# Altium footprint library PcbLib1.PcbLib: 25 footprints (part 1 of 2)
Each footprint in its own frame and in the unit in brackets; x right, y up, seen from the top. Pads: shape width x height; smd on the part's side, far side on the other; paste and mask are expansions set on the pad; w line width, h text height; cw(c..) or ccw(c..) is an arc to the next point about the centre after c.
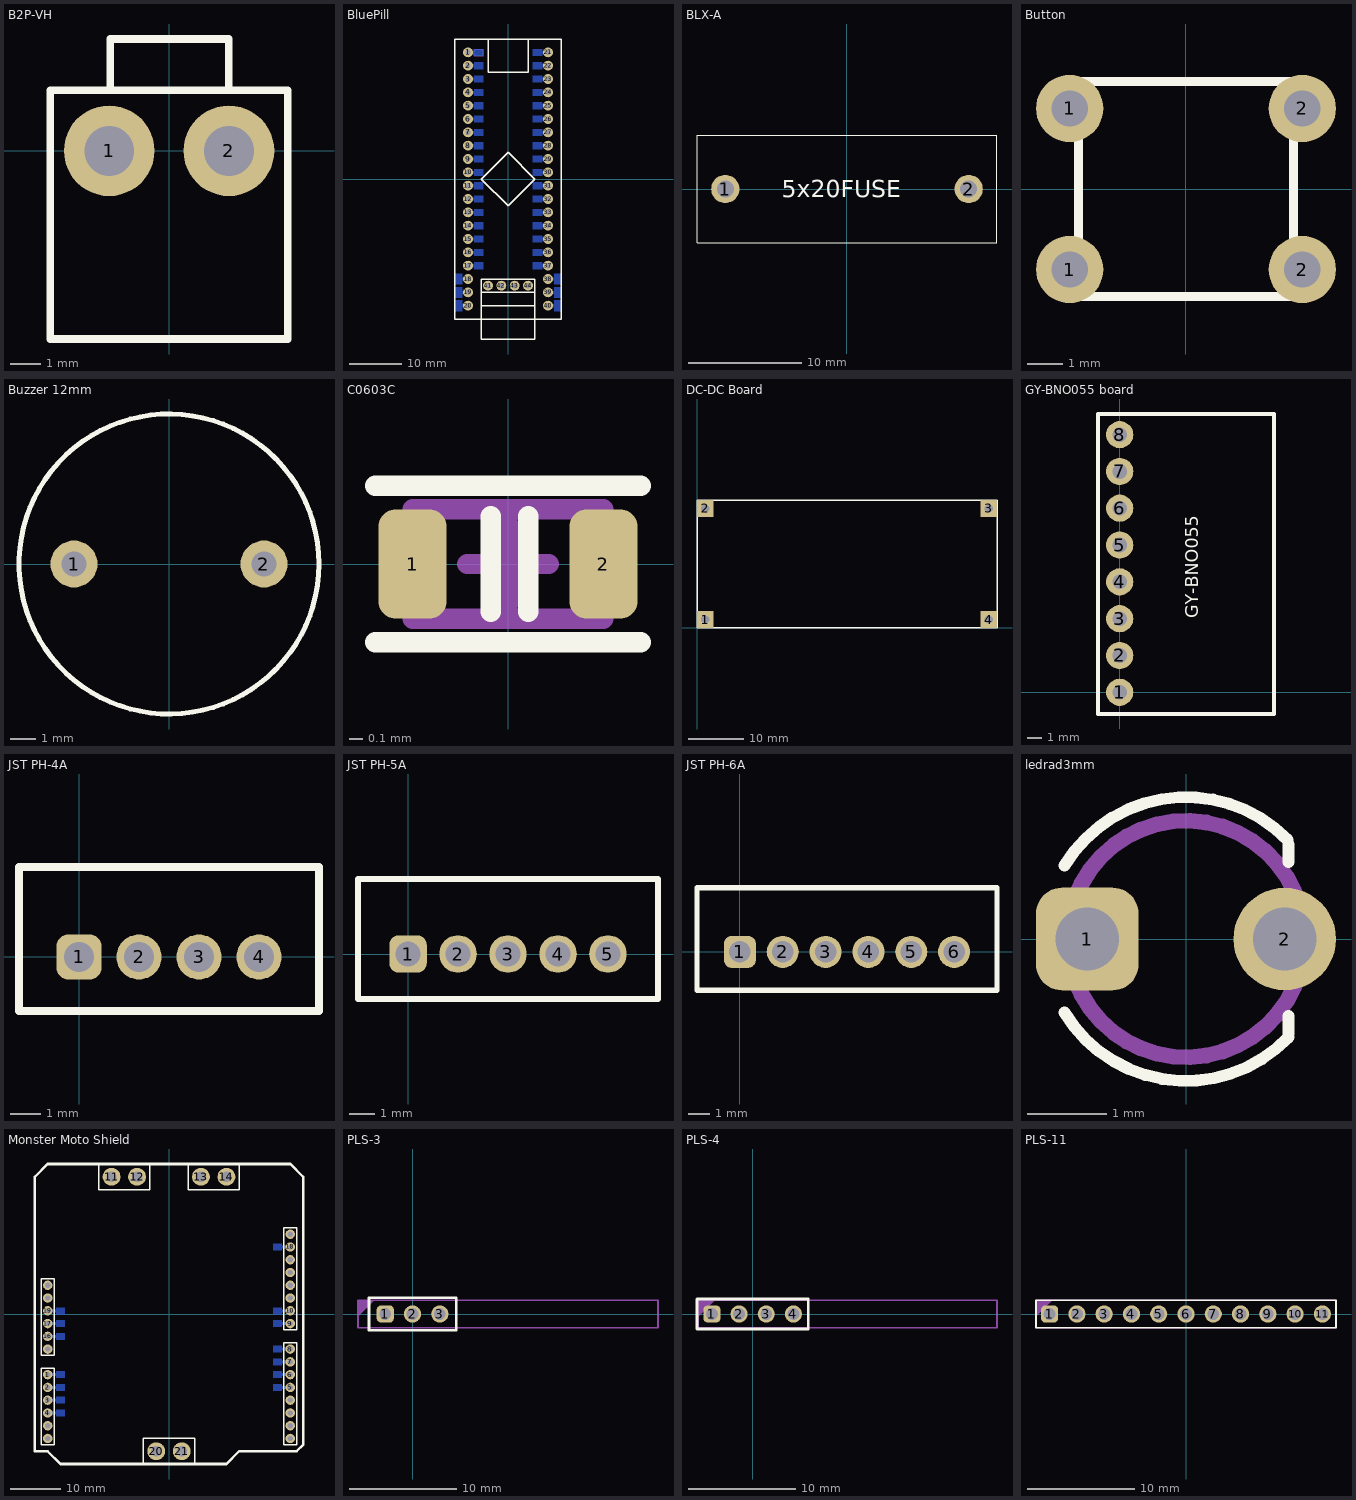
[diagram p0: the footprints below, top view; thin cyan lines are the x and y axes]

## B2P-VH [mm]
pads (2):
  round 3 hole 1.65: 1(-1.98,0) 2(1.98,0)
Top Overlay:
  lines w0.254: -1.95,2 -1.95,3.7 1.975,3.7 1.975,2 ; -3.93,-6.225 3.925,-6.225 3.925,2 -3.93,2 -3.93,-6.225

## BluePill [mil]
pads (44):
  round 74 hole 40: 1(-300,950) 2(-300,850) 3(-300,750) 4(-300,650) 5(-300,550) 6(-300,450) 7(-300,350) 8(-300,250) 9(-300,150) 10(-300,50) 11(-300,-50) 12(-300,-150) 13(-300,-250) 14(-300,-350) 15(-300,-450) 16(-300,-550) 17(-300,-650) 18(-300,-750) 19(-300,-850) 20(-300,-950) 21(300,950) 22(300,850) 23(300,750) 24(300,650) 25(300,550) 26(300,450) 27(300,350) 28(300,250) 29(300,150) 30(300,50) 31(300,-50) 32(300,-150) 33(300,-250) 34(300,-350) 35(300,-450) 36(300,-550) 37(300,-650) 38(300,-750) 39(300,-850) 40(300,-950) 41(-150,-800) 42(-50,-800) 43(50,-800) 44(150,-800)
Bottom Layer:
  region: -270,940 -250,940 -250,960 -270,960
  region: -255,925 -185,925 -185,975 -255,975
  region: -270,840 -250,840 -250,860 -270,860
  region: -255,825 -185,825 -185,875 -255,875
  region: -270,740 -250,740 -250,760 -270,760
  region: -255,725 -185,725 -185,775 -255,775
  region: -270,640 -250,640 -250,660 -270,660
  region: -255,625 -185,625 -185,675 -255,675
  region: -270,540 -250,540 -250,560 -270,560
  region: -255,525 -185,525 -185,575 -255,575
  region: -270,440 -250,440 -250,460 -270,460
  region: -255,425 -185,425 -185,475 -255,475
  region: -270,340 -250,340 -250,360 -270,360
  region: -255,325 -185,325 -185,375 -255,375
  region: -270,240 -250,240 -250,260 -270,260
  region: -255,225 -185,225 -185,275 -255,275
  region: -270,140 -250,140 -250,160 -270,160
  region: -255,125 -185,125 -185,175 -255,175
  region: -270,40 -250,40 -250,60 -270,60
  region: -255,25 -185,25 -185,75 -255,75
  region: -270,-60 -250,-60 -250,-40 -270,-40
  region: -255,-75 -185,-75 -185,-25 -255,-25
  region: -270,-160 -250,-160 -250,-140 -270,-140
  region: -255,-175 -185,-175 -185,-125 -255,-125
  region: -270,-260 -250,-260 -250,-240 -270,-240
  region: -255,-275 -185,-275 -185,-225 -255,-225
  region: -270,-360 -250,-360 -250,-340 -270,-340
  region: -255,-375 -185,-375 -185,-325 -255,-325
  region: -270,-460 -250,-460 -250,-440 -270,-440
  region: -255,-475 -185,-475 -185,-425 -255,-425
  region: -270,-560 -250,-560 -250,-540 -270,-540
  region: -255,-575 -185,-575 -185,-525 -255,-525
  region: -270,-660 -250,-660 -250,-640 -270,-640
  region: -255,-675 -185,-675 -185,-625 -255,-625
  region: 270,-640 250,-640 250,-660 270,-660
  region: 255,-625 185,-625 185,-675 255,-675
  region: 270,-540 250,-540 250,-560 270,-560
  region: 255,-525 185,-525 185,-575 255,-575
  region: 270,-440 250,-440 250,-460 270,-460
  region: 255,-425 185,-425 185,-475 255,-475
  region: 270,-340 250,-340 250,-360 270,-360
  region: 255,-325 185,-325 185,-375 255,-375
  region: 270,-240 250,-240 250,-260 270,-260
  region: 255,-225 185,-225 185,-275 255,-275
  region: 270,-140 250,-140 250,-160 270,-160
  region: 255,-125 185,-125 185,-175 255,-175
  region: 270,-40 250,-40 250,-60 270,-60
  region: 255,-25 185,-25 185,-75 255,-75
  region: 270,60 250,60 250,40 270,40
  region: 255,75 185,75 185,25 255,25
  region: 270,160 250,160 250,140 270,140
  region: 255,175 185,175 185,125 255,125
  region: 270,260 250,260 250,240 270,240
  region: 255,275 185,275 185,225 255,225
  region: 270,360 250,360 250,340 270,340
  region: 255,375 185,375 185,325 255,325
  region: 270,460 250,460 250,440 270,440
  region: 255,475 185,475 185,425 255,425
  region: 270,560 250,560 250,540 270,540
  region: 255,575 185,575 185,525 255,525
  region: 270,660 250,660 250,640 270,640
  region: 255,675 185,675 185,625 255,625
  region: 270,760 250,760 250,740 270,740
  region: 255,775 185,775 185,725 255,725
  region: 270,860 250,860 250,840 270,840
  region: 255,875 185,875 185,825 255,825
  region: 270,960 250,960 250,940 270,940
  region: 255,975 185,975 185,925 255,925
  region: -330,-740 -350,-740 -350,-760 -330,-760
  region: -345,-710 -395,-710 -395,-790 -345,-790
  region: -330,-840 -350,-840 -350,-860 -330,-860
  region: -345,-810 -395,-810 -395,-890 -345,-890
  region: -330,-940 -350,-940 -350,-960 -330,-960
  region: -345,-910 -395,-910 -395,-990 -345,-990
  region: 330,-760 350,-760 350,-740 330,-740
  region: 345,-790 395,-790 395,-710 345,-710
  region: 330,-860 350,-860 350,-840 330,-840
  region: 345,-890 395,-890 395,-810 345,-810
  region: 330,-960 350,-960 350,-940 330,-940
  region: 345,-990 395,-990 395,-910 345,-910
Top Overlay:
  lines w10: -400,-1050 400,-1050 400,1050 -400,1050 -400,-1050 ; -200,-1200 200,-1200 200,-750 -200,-750 -200,-1200 ; -200,-950 200,-950 200,-850 -200,-850 -200,-950 ; -200,0 0,-200 200,0 0,200 -200,0 ; -150,800 150,800 150,1050 -150,1050 -150,800
Bottom Designator:
  lines w5: -265,940 -255,940 -255,925 -185,925 -185,975 -255,975 -255,960 -265,960

## BLX-A [mm] "Держатель для предохрнителей 5x20 mm"
pads (2):
  round 2.5 hole 1.5: 1(-10.75,0) 2(10.75,0)
Top Overlay:
  lines w0.1: -13.25,-4.75 13.25,-4.75 13.25,4.75 -13.25,4.75 -13.25,-4.75
  text "5x20FUSE" at -5.746,-0.746 h1.52

## Button [mil]
pads (4):
  round 74 hole 40: 1(-127.95,-88.58) 1(-127.95,88.58) 2(127.95,-88.58) 2(127.95,88.58)
Top Overlay:
  lines w10: -118.11,-118.11 118.11,-118.11 118.11,118.11 -118.11,118.11 -118.11,-118.11

## Buzzer 12mm [mil]
pads (2):
  round 74 hole 40: 1(-149.61,0) 2(149.61,0)
Top Overlay:
  circle w7.87: c0,0 r236.22

## C0603C [mm]
height 0.8
pads (2):
  rrect50% 0.5x0.8 smd: 1(-0.7,0) 2(0.7,0)
Top Overlay:
  lines w0.15: -0.975,-0.575 0.975,-0.575 ; -0.975,0.575 0.975,0.575 ; -0.127,-0.35 -0.127,0.35 ; 0.148,-0.35 0.148,0.35
Top Courtyard:
  lines w0.15: -0.3,0 0.3,0 ; 0,-0.3 0,0.3 ; -0.7,-0.4 0.7,-0.4 0.7,0.4 -0.7,0.4 -0.7,-0.4
3D body: height 0.5, standoff 0, extent -0.8,-0.4 -0.4,0.4
3D body: height 0.5, standoff 0, extent -0.4,-0.4 0.4,0.4
3D body: height 0.5, standoff 0, extent 0.4,-0.4 0.8,0.4

## DC-DC Board [mm]
pads (4):
  rect 3x3 hole 1.5: 1(1.5,1.5) 2(1.5,21.5) 3(52.5,21.5) 4(52.5,1.5)
Top Overlay:
  lines w0.254: 0,0 54,0 54,23 0,23 0,0

## GY-BNO055 board [mil]
pads (8):
  round 74 hole 40: 1(0,0) 2(0,100) 3(0,200) 4(0,300) 5(0,400) 6(0,500) 7(0,600) 8(0,700)
Top Overlay:
  lines w10: -59,-59 419,-59 419,756 -59,756 -59,-59
  text "GY-BNO055" at 225,201 h60

## JST PH-4A [mm]
pads (4):
  rrect50% 1.5x1.5 hole 1: 1(0,0)
  round 1.5 hole 1: 2(2,0) 3(4,0) 4(6,0)
Top Overlay:
  lines w0.254: -2,-1.8 8,-1.8 8,3 -2,3 -2,-1.8

## JST PH-5A [mm]
pads (5):
  rrect50% 1.5x1.5 hole 1: 1(0,0)
  round 1.5 hole 1: 2(2,0) 3(4,0) 4(6,0) 5(8,0)
Top Overlay:
  lines w0.254: -2,-1.8 10,-1.8 10,3 -2,3 -2,-1.8

## JST PH-6A [mm]
pads (6):
  rrect50% 1.5x1.5 hole 1: 1(0,0)
  round 1.5 hole 1: 2(2,0) 3(4,0) 4(6,0) 5(8,0) 6(10,0)
Top Overlay:
  lines w0.254: -2,-1.8 12,-1.8 12,3 -2,3 -2,-1.8

## ledrad3mm [mm]
pads (2):
  rrect50% 1.3x1.3 hole 0.8: 1(-1.252,0)
  round 1.3 hole 0.8: 2(1.252,0)
Top Overlay:
  lines w0.15: -1.539,-0.933 ccw(c0,0) 1.303,-1.241 ; -1.539,0.933 cw(c0,0) 1.29,1.255 ; 1.3,-1.2 1.3,-0.975 ; 1.3,0.975 1.3,1.2
  text "." at 1.295,0.495 h0.1
Mechanical 29:
  circle w0.2: c0,0 r1.5
3D body: height 12, standoff -2, extent 1,-0.3 1.4,0.3
3D body: height 12, standoff -2, extent -1.4,-0.3 -1,0.3
3D body: height 11.5, standoff 11, extent -2.007,-2 1.407,2
3D body: height 14, standoff 11, extent -1.5,-1.5 1.5,1.5
3D body: height 15.5, standoff 12.5, extent -1.5,-1.5 1.5,1.5

## Monster Moto Shield [mil]
pads (34):
  round 74 hole 40: 1(-950,-475) 2(-950,-575) 3(-950,-675) 4(-950,-775) 5(950,-575) 6(950,-475) 7(950,-375) 8(950,-275) 9(950,-75) 10(950,25) 16(-950,-175) 17(-950,-75) 18(950,525) 19(-950,25) ""(-950,-975) ""(-950,-875) ""(-950,-275) ""(-950,125) ""(-950,225) ""(950,-975) ""(950,-875) ""(950,-775) ""(950,-675) ""(950,125) ""(950,225) ""(950,325) ""(950,425) ""(950,625)
  round 140 hole 81: 11(-450,1075) 12(-250,1075) 13(250,1075) 14(450,1075) 20(-100,-1075) 21(100,-1075)
Bottom Layer:
  region: 925,535 880,535 880,515 925,515
  region: 885,550 815,550 815,500 885,500
  region: 925,35 880,35 880,15 925,15
  region: 885,50 815,50 815,0 885,0
  region: 925,-65 880,-65 880,-85 925,-85
  region: 885,-50 815,-50 815,-100 885,-100
  region: 925,-265 880,-265 880,-285 925,-285
  region: 885,-250 815,-250 815,-300 885,-300
  region: 925,-365 880,-365 880,-385 925,-385
  region: 885,-350 815,-350 815,-400 885,-400
  region: 925,-465 880,-465 880,-485 925,-485
  region: 885,-450 815,-450 815,-500 885,-500
  region: 925,-565 880,-565 880,-585 925,-585
  region: 885,-550 815,-550 815,-600 885,-600
  region: -925,-785 -880,-785 -880,-765 -925,-765
  region: -885,-800 -815,-800 -815,-750 -885,-750
  region: -925,-685 -880,-685 -880,-665 -925,-665
  region: -885,-700 -815,-700 -815,-650 -885,-650
  region: -925,-585 -880,-585 -880,-565 -925,-565
  region: -885,-600 -815,-600 -815,-550 -885,-550
  region: -925,-485 -880,-485 -880,-465 -925,-465
  region: -885,-500 -815,-500 -815,-450 -885,-450
  region: -925,-185 -880,-185 -880,-165 -925,-165
  region: -885,-200 -815,-200 -815,-150 -885,-150
  region: -925,-85 -880,-85 -880,-65 -925,-65
  region: -885,-100 -815,-100 -815,-50 -885,-50
  region: -925,15 -880,15 -880,35 -925,35
  region: -885,0 -815,0 -815,50 -885,50
Top Overlay:
  lines w10: -1000,-1025 -1000,-425 -900,-425 -900,-1025 -1000,-1025 ; -1000,-325 -900,-325 -900,275 -1000,275 -1000,-325 ; -550,975 -550,1175 -150,1175 -150,975 -550,975 ; -200,-1175 -200,-975 200,-975 200,-1175 -200,-1175 ; 150,975 150,1175 550,1175 550,975 150,975 ; 900,-1025 900,-225 1000,-225 1000,-1025 900,-1025 ; 900,-125 900,675 1000,675 1000,-125 900,-125
  lines w20: -1050,-1075 -950,-1075 -850,-1175 450,-1175 550,-1075 1000,-1075 1050,-1025 1050,1075 950,1175 -950,1175 -1050,1075 -1050,-1075
Route Tool Path (Mech8):
  lines w8: -1050,-1075 -950,-1075 -850,-1175 450,-1175 550,-1075 1000,-1075 1050,-1025 1050,1075 950,1175 -950,1175 -1050,1075 -1050,-1075

## PLS-3 [mm]
pads (3):
  rrect50% 1.6x1.6 hole 1.1: 1(-2.54,0)
  round 1.6 hole 1.1: 2(0,0) 3(2.54,0)
Top Overlay:
  lines w0.254: -4.064,-1.524 4.064,-1.524 4.064,1.524 -4.064,1.524 -4.064,-1.524
Top Designator:
  text ".Designator" at -3.999,-0.267 h0.8
Mechanical 29:
  region: -5.08,1.27 -3.556,1.27 -5.08,-0.254
  lines w0.15: -5.08,-1.27 22.86,-1.27 22.86,1.27 -5.08,1.27 -5.08,-1.27
  text ".Designator" at 5.39,-0.3 h1
3D body "PLS-1.STEP": height 8.5, standoff -3, extent -3.81,-1.27 -1.27,1.27
3D body "PLS-1.STEP": height 8.5, standoff -3, extent -1.27,-1.27 1.27,1.27
3D body "PLS-1.STEP": height 8.5, standoff -3, extent 1.27,-1.27 3.81,1.27

## PLS-4 [mm]
pads (4):
  rrect50% 1.6x1.6 hole 1.1: 1(-3.81,0)
  round 1.6 hole 1.1: 2(-1.27,0) 3(1.27,0) 4(3.81,0)
Top Overlay:
  lines w0.254: -5.207,-1.397 5.207,-1.397 5.207,1.397 -5.207,1.397 -5.207,-1.397
Top Designator:
  text ".Designator" at -3.999,-0.267 h0.8
Mechanical 29:
  region: -5.08,1.27 -3.556,1.27 -5.08,-0.254
  lines w0.15: -5.08,-1.27 22.86,-1.27 22.86,1.27 -5.08,1.27 -5.08,-1.27
  text ".Designator" at 5.39,-0.3 h1
3D body "PLS-1.STEP": height 8.5, standoff -3, extent -5.08,-1.27 -2.54,1.27
3D body "PLS-1.STEP": height 8.5, standoff -3, extent -2.54,-1.27 0,1.27
3D body "PLS-1.STEP": height 8.5, standoff -3, extent 0,-1.27 2.54,1.27
3D body "PLS-1.STEP": height 8.5, standoff -3, extent 2.54,-1.27 5.08,1.27

## PLS-11 [mm]
pads (11):
  rrect50% 1.6x1.6 hole 1.1: 1(-12.7,0)
  round 1.6 hole 1.1: 2(-10.16,0) 3(-7.62,0) 4(-5.08,0) 5(-2.54,0) 6(0,0) 7(2.54,0) 8(5.08,0) 9(7.62,0) 10(10.16,0) 11(12.7,0)
Top Overlay:
  lines w0.15: -13.97,-1.27 -13.97,1.27 13.97,1.27 13.97,-1.27 -13.97,-1.27
Top Designator:
  text ".Designator" at -3.999,-0.267 h0.8
Mechanical 29:
  region: -13.97,1.27 -12.446,1.27 -13.97,-0.254
  lines w0.15: -13.97,-1.27 13.97,-1.27 13.97,1.27 -13.97,1.27 -13.97,-1.27
  text ".Designator" at -3.5,-0.3 h1
3D body "PLS-1.STEP": height 8.5, standoff -3, extent -13.97,-1.27 -11.43,1.27
3D body "PLS-1.STEP": height 8.5, standoff -3, extent -11.43,-1.27 -8.89,1.27
3D body "PLS-1.STEP": height 8.5, standoff -3, extent -8.89,-1.27 -6.35,1.27
3D body "PLS-1.STEP": height 8.5, standoff -3, extent -6.35,-1.27 -3.81,1.27
3D body "PLS-1.STEP": height 8.5, standoff -3, extent -3.81,-1.27 -1.27,1.27
3D body "PLS-1.STEP": height 8.5, standoff -3, extent -1.27,-1.27 1.27,1.27
3D body "PLS-1.STEP": height 8.5, standoff -3, extent 1.27,-1.27 3.81,1.27
3D body "PLS-1.STEP": height 8.5, standoff -3, extent 3.81,-1.27 6.35,1.27
3D body "PLS-1.STEP": height 8.5, standoff -3, extent 6.35,-1.27 8.89,1.27
3D body "PLS-1.STEP": height 8.5, standoff -3, extent 8.89,-1.27 11.43,1.27
3D body "PLS-1.STEP": height 8.5, standoff -3, extent 11.43,-1.27 13.97,1.27